# Altium footprint library Connector.PcbLib: 240 footprints (part 15 of 15)
Each footprint in its own frame and in the unit in brackets; x right, y up, seen from the top. Pads: shape width x height; smd on the part's side, far side on the other; paste and mask are expansions set on the pad; w line width, h text height; cw(c..) or ccw(c..) is an arc to the next point about the centre after c.
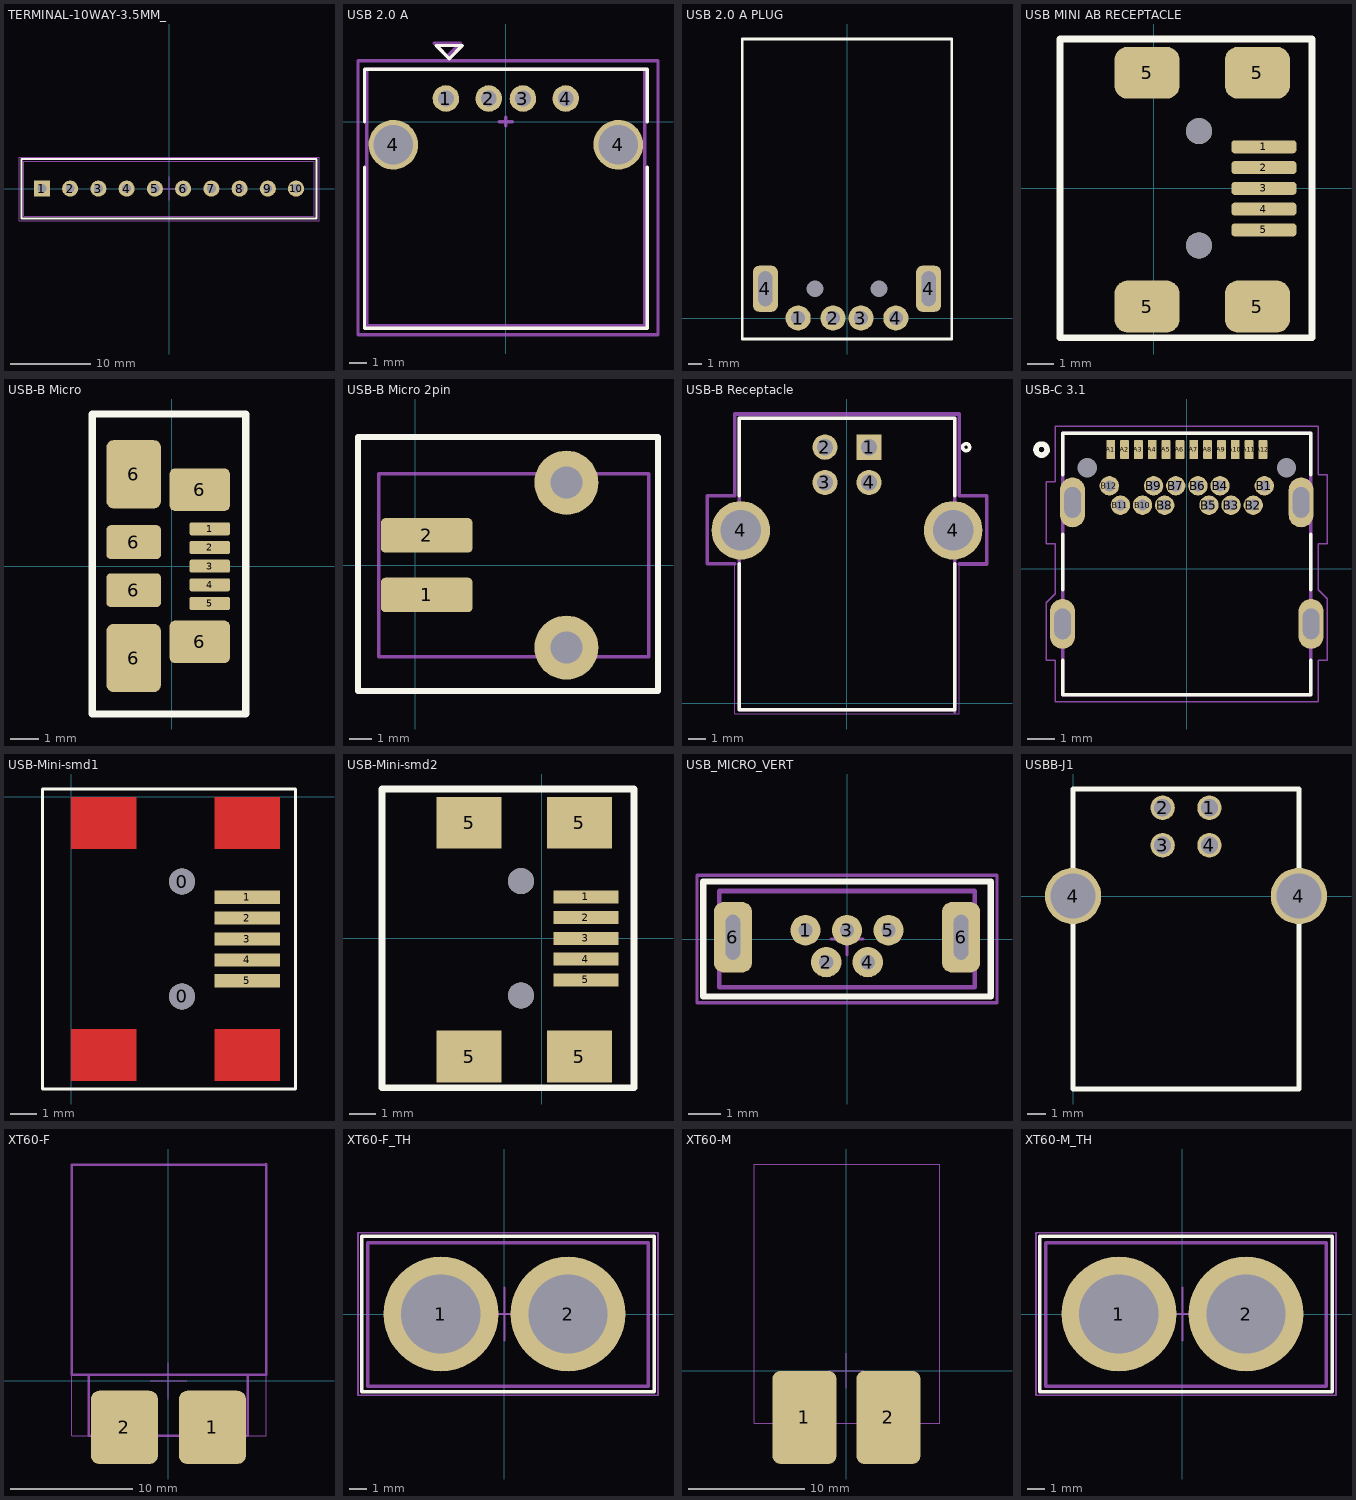
[diagram p14: the footprints below, top view; thin cyan lines are the x and y axes]

## TERMINAL-10WAY-3.5MM_ [mm]
pads (10):
  rect 2x2 hole 1.1: 1(-15.75,0)
  round 2 hole 1.1: 2(-12.25,0) 3(-8.75,0) 4(-5.25,0) 5(-1.75,0) 6(1.75,0) 7(5.25,0) 8(8.75,0) 9(12.25,0) 10(15.75,0)
Top Overlay:
  lines w0.254: -18.3,-3.7 18.3,-3.7 18.3,3.65 -18.3,3.65 -18.3,-3.7
Mechanical 9:
  text ".Designator" at -6.2,-6.5 h3.5
Mechanical 10:
  text ".Comment" at -3.4,-8.5 h2
Mechanical 11:
  lines w0.15: -18,-3.4 -18,3.395 18,3.395 18,-3.4 -18,-3.4
Mechanical 15:
  lines w0.1: -1.5,0 1.5,0 ; 0,-1.47 0,1.5 ; -18.6,-4 -18.6,3.9 18.6,3.9 18.6,-4 -18.6,-4
3D body "User Library-DG350-3,5-03P.step": height 8.4, standoff -3.5, extent -11,-3.425 0.5,3.375
3D body "User Library-DG350-3,5-02P.step": height 8.4, standoff -3.4, extent 10,-3.425 18,3.375
3D body "User Library-DG350-3,5-03P.step": height 8.4, standoff -3.5, extent -0.5,-3.425 11,3.375
3D body "User Library-DG350-3,5-02P.step": height 8.4, standoff -3.4, extent -18,-3.425 -10,3.375

## USB 2.0 A [mm]
height 7.12
pads (6):
  round 1.55 hole 0.92: 1(-3.5,1.35) 2(-1,1.35) 3(1,1.35) 4(3.5,1.35)
  round 2.9 hole 2.3: 4(-6.57,-1.35) 4(6.57,-1.35)
Top Overlay:
  lines w0.2: -8.255,-2.667 -8.255,-12.065 8.255,-12.065 8.255,-2.667 ; -8.255,0 -8.255,3.048 8.255,3.048 8.255,0 ; -4.064,4.445 -3.302,3.683 -2.54,4.445 -4.064,4.445
Mechanical 13:
  lines w0.2: -8.128,-11.938 -8.128,3.048 8.128,3.048 8.128,-11.938 -8.128,-11.938
Mechanical 15:
  lines w0.2: -0.381,0 0.381,0 ; 0,-0.254 0,0.254 ; -8.636,-12.446 -8.636,3.556 8.89,3.556 8.89,-12.446 -8.636,-12.446 ; -4.191,4.572 -2.667,4.572 -3.429,3.81 -4.191,4.572
  text ".Designator" at 0,0 h0.76
3D body "WE-EPLE_8492121_1.stp": height 7.12, standoff -3.49, extent -7.892,-11.698 7.873,2.802

## USB 2.0 A PLUG [mm]
pads (8):
  round 1.8 hole 1: 1(-3.5,0) 2(-1,0) 3(1,0) 4(3.5,0)
  rrect50% 1.8x3.3 hole 1 slot 2.5 at 90 deg: 4(-5.85,2.1) 4(5.85,2.1)
  round 0 hole 1.2 unplated: ""(-2.3,2.1) ""(2.3,2.1)
Top Overlay:
  lines w0.2: -7.5,-1.5 -7.5,20 7.5,20 7.5,-1.5 -7.5,-1.5
3D body "CUI_INC_UP2-AH-1-TH.step": height 4.15, standoff -2.2, extent -6.3,0 6.3,20

## USB MINI AB RECEPTACLE [mm]
pads (11):
  rrect50% 2.5x0.5 smd: 1(4.25,1.6) 2(4.25,0.8) 3(4.25,0) 4(4.25,-0.8) 5(4.25,-1.6)
  rrect50% 2.5x2 smd: 5(-0.25,-4.55) 5(-0.25,4.45) 5(4,-4.55) 5(4,4.45)
  round 1 hole 1 mask+0: ""(1.75,-2.2)
  round 1 hole 1 unplated mask+0: ""(1.75,2.2)
Top Overlay:
  lines w0.254: -3.6,-5.75 6.1,-5.75 6.1,5.75 -3.6,5.75 -3.6,-5.75
3D body "56579-0576.stp": height 3.95, standoff 0, extent -4.25,-4.95 4.75,4.95

## USB-B Micro [mm]
pads (11):
  rrect25% 1.4x0.45 smd: 1(1.325,1.3) 2(1.325,0.65) 3(1.325,0) 4(1.325,-0.65) 5(1.325,-1.3)
  rrect25% 1.9x2.375 smd: 6(-1.325,-3.2) 6(-1.325,3.2)
  rrect25% 1.9x1.175 smd: 6(-1.325,-0.837) 6(-1.325,0.838)
  rrect25% 2.1x1.475 smd: 6(0.975,-2.638) 6(0.975,2.663)
Top Overlay:
  lines w0.254: -2.765,-5.15 -2.765,5.3 2.575,5.3 2.575,-5.15 -2.765,-5.15
3D body "micro-B USB.STEP": height 2.64, standoff -0.28, extent -4.025,-3.974 1.401,4

## USB-B Micro 2pin [mm]
pads (4):
  rrect25% 4x1.5 smd: 1(0.5,-1.3) 2(0.5,1.3)
  round 2.8 hole 1.4: ""(6.6,-3.6) ""(6.6,3.6)
Top Overlay:
  lines w0.254: -2.5,-5.5 -2.5,5.6 10.6,5.6 10.6,-5.5 -2.5,-5.5
Mechanical 7:
  lines w0.15: -1.6,-4 -1.6,4 10.2,4 10.2,-4 -1.6,-4

## USB-B Receptacle [mm]
pads (6):
  rect 1.428x1.428 hole 0.92: 1(1.25,14.52)
  round 1.428 hole 0.92: 2(-1.25,14.52) 3(-1.25,12.52) 4(1.25,12.52)
  round 3.316 hole 2.3: 4(-6.02,9.81) 4(6.02,9.81)
Top Overlay:
  circle w0.2: c6.75,14.52 r0.2
  lines w0.2: -6.1,7.91 -6.1,-0.35 6.1,-0.35 6.1,7.91 ; -6.1,11.78 -6.1,16.15 6.1,16.15 6.1,11.78
Mechanical 4:
  circle w0.4: c1.25,14.52 r0.2
  circle w0.4: c1.25,14.52 r0.2
  lines w0.2: -6.1,-0.35 6.1,-0.35 ; -6.1,-0.35 -6.1,16.15 ; -6.1,-0.35 6.1,-0.35 ; -6.1,-0.35 -6.1,16.15 ; -6.1,16.15 6.1,16.15 ; -6.1,16.15 6.1,16.15 ; 6.1,-0.35 6.1,16.15 ; 6.1,-0.35 6.1,-0.47 6.1,-0.35 ; 6.1,-0.35 6.1,16.15
Mechanical 16:
  lines w0: -6.35,-0.6 -6.35,7.91
  lines w0.05: -6.35,-0.6 6.35,-0.6 6.35,7.9
  lines w0.2: -6.35,7.91 -7.92,7.91 -7.92,11.78 -6.35,11.78 -6.35,16.4 6.35,16.4 6.35,11.78 7.92,11.78 7.92,7.9 6.35,7.9
3D body "CUI_UJ2-BH-2-TH.step": height 10.3, standoff -3.9, extent -7.5,-0.35 7.5,16.1

## USB-C 3.1 [mm]
pads (30):
  rrect25% 0.32x0.7 smd: A1(-2.75,4.31) A2(-2.25,4.31) A3(-1.75,4.31) A4(-1.25,4.31) A5(-0.75,4.31) A6(-0.25,4.31) A7(0.25,4.31) A8(0.75,4.31) A9(1.25,4.31) A10(1.75,4.31) A11(2.25,4.31) A12(2.75,4.31)
  round 0.7 hole 0.4: B1(2.8,3) B2(2.4,2.3) B3(1.6,2.3) B4(1.2,3) B5(0.8,2.3) B6(0.4,3) B7(-0.4,3) B8(-0.8,2.3) B9(-1.2,3) B10(-1.6,2.3) B11(-2.4,2.3) B12(-2.8,3)
  oval 0.9x1.8 hole 0.6 slot 1.1 at 90 deg: ""(-4.49,-1.99) ""(-4.13,2.4) ""(4.13,2.4) ""(4.49,-1.99)
  round 0 hole 0.7 unplated: ""(-3.6,3.65) ""(3.6,3.65)
Top Overlay:
  lines w0.127: -4.48,-3.3 -4.48,-4.55 4.48,-4.55 4.48,-3.3 ; -4.48,-0.75 -4.48,1.25 ; -4.48,3.4 -4.48,4.9 4.48,4.9 4.48,3.4 ; 4.48,-0.75 4.48,1.25
  lines w0.2: -5.063,4.381 ccw(c-5.25,4.31) -5.05,4.31
Top Solder:
  region: 3.45,4.175 3.75,4.175 3.777,4.175 3.832,4.169 3.886,4.158 3.938,4.141 3.989,4.118 4.036,4.091 4.081,4.059 4.122,4.022 4.159,3.981 4.191,3.936 4.218,3.889 4.241,3.838 4.258,3.786 4.269,3.732 4.275,3.678 4.275,3.623 4.269,3.568 4.258,3.514 4.241,3.462 4.218,3.411 4.191,3.364 4.159,3.319 4.122,3.278 4.081,3.241 4.036,3.209 3.989,3.182 3.938,3.159 3.886,3.142 3.832,3.131 3.778,3.125 3.75,3.125 3.45,3.125 3.423,3.125 3.368,3.131 3.314,3.142 3.262,3.159 3.211,3.182 3.164,3.209 3.119,3.241 3.078,3.278 3.041,3.319 3.009,3.364 2.982,3.411 2.959,3.462 2.942,3.514 2.931,3.568 2.925,3.622 2.925,3.677 2.931,3.732 2.942,3.786 2.959,3.838 2.982,3.889 3.009,3.936 3.041,3.981 3.078,4.022 3.119,4.059 3.164,4.091 3.211,4.118 3.262,4.141 3.314,4.158 3.368,4.169 3.422,4.175
Bottom Solder:
  region: 3.45,4.175 3.75,4.175 3.777,4.175 3.832,4.169 3.886,4.158 3.938,4.141 3.989,4.118 4.036,4.091 4.081,4.059 4.122,4.022 4.159,3.981 4.191,3.936 4.218,3.889 4.241,3.838 4.258,3.786 4.269,3.732 4.275,3.678 4.275,3.623 4.269,3.568 4.258,3.514 4.241,3.462 4.218,3.411 4.191,3.364 4.159,3.319 4.122,3.278 4.081,3.241 4.036,3.209 3.989,3.182 3.938,3.159 3.886,3.142 3.832,3.131 3.778,3.125 3.75,3.125 3.45,3.125 3.423,3.125 3.368,3.131 3.314,3.142 3.262,3.159 3.211,3.182 3.164,3.209 3.119,3.241 3.078,3.278 3.041,3.319 3.009,3.364 2.982,3.411 2.959,3.462 2.942,3.514 2.931,3.568 2.925,3.622 2.925,3.677 2.931,3.732 2.942,3.786 2.959,3.838 2.982,3.889 3.009,3.936 3.041,3.981 3.078,4.022 3.119,4.059 3.164,4.091 3.211,4.118 3.262,4.141 3.314,4.158 3.368,4.169 3.422,4.175
Mechanical 4:
  circle w0.127: c-2.75,4.41 r0.06
  circle w0.127: c-2.75,4.41 r0.06
  lines w0.127: -4.48,-4.55 4.48,-4.55 ; -4.48,-4.55 -4.48,4.9 ; -4.48,-4.55 4.48,-4.55 ; -4.48,-4.55 -4.48,4.9 ; -4.48,4.9 4.48,4.9 ; -4.48,4.9 4.48,4.9 ; 4.48,-4.55 4.48,4.9 ; 4.48,-4.55 4.48,4.9
Mechanical 15:
  lines w0.05: -5.08,-3.3 -5.08,-2.35 -5.08,-1.23 -4.75,-0.9 -4.75,0.9 -5.08,0.9 -5.08,3.15 -4.75,3.15 -4.75,5.15 4.75,5.15 4.75,3.4 5.08,3.4 5.08,0.9 4.75,0.9 4.75,-0.75 5.08,-1.08 5.08,-2.35 5.08,-3.3 4.75,-3.3 4.75,-4.8 -4.75,-4.8 -4.75,-3.3 -5.08,-3.3
3D body "CUI_UJ31-CH-31-SMT-TR.step": height 3.15, standoff -0.93, extent -4.48,-5.95 4.48,4.9

## USB-Mini-smd1 [mm]
pads (7):
  round 1 hole 1 mask+0: 0(4.25,-7.65) 0(4.25,-3.25)
  rect 2.5x0.5 smd: 1(6.75,-3.85) 2(6.75,-4.65) 3(6.75,-5.45) 4(6.75,-6.25) 5(6.75,-7.05)
Top Layer:
  rectangle: 0,-10.9 2.5,-8.9
  rectangle: 0,-2 2.5,0
  rectangle: 5.5,-10.9 8,-8.9
  rectangle: 5.5,-2 8,0
Top Overlay:
  lines w0.1: -1.1,-11.2 8.6,-11.2 8.6,0.3 -1.1,0.3 -1.1,-11.2
3D body "User Library-usb_mini_smd.STEP": height 4.14, standoff -0.95, extent -1.7,-10.4 7.5,-0.5

## USB-Mini-smd2 [mm]
height 2
pads (11):
  rect 2.5x0.5 smd: 1(1.7,1.6) 2(1.7,0.8) 3(1.7,0) 4(1.7,-0.8) 5(1.7,-1.6)
  rect 2.5x2 smd: 5(-2.8,-4.55) 5(-2.8,4.45) 5(1.45,-4.55) 5(1.45,4.45)
  round 1 hole 1 mask+0: ""(-0.8,-2.2)
  round 1 hole 1 unplated mask+0: ""(-0.8,2.2)
Top Overlay:
  lines w0.254: -6.15,-5.75 3.55,-5.75 3.55,5.75 -6.15,5.75 -6.15,-5.75
3D body "miniusbfm.step": height 3.9, standoff -0.05, extent -6.875,-4.95 2.125,4.95

## USB_MICRO_VERT [mm]
pads (7):
  round 0.95 hole 0.45: 1(-1.3,0.275) 2(-0.65,-0.725) 3(0,0.275) 4(0.65,-0.725) 5(1.3,0.275)
  rrect50% 1.2x2.2 hole 0.45 slot 1.4 at 90 deg: 6(-3.575,0.055) 6(3.575,0.055)
Top Overlay:
  lines w0.2: -4.5,-1.8 -4.5,1.8 4.5,1.8 4.5,1.6 4.5,-1.8 -4.5,-1.8
Mechanical 7:
  lines w0.15: -4,-1.51 4,-1.51 4,1.505 -4,1.505 -4,-1.51
Mechanical 15:
  lines w0.1: -0.5,0 0.5,0 ; 0,-0.5 0,0.5 ; -4.7,-2 -4.7,2 4.7,2 4.7,-2 -4.7,-2
3D body "User Library-Micro USB B THT vertical.step": height 6.94, standoff -0.97, extent -4,-1.51 4,1.505

## USBB-J1 [mm]
pads (6):
  round 1.3 hole 0.92: 1(7.27,4.71) 2(4.77,4.71) 3(4.77,2.71) 4(7.27,2.71)
  round 3 hole 2.4: 4(0,0) 4(12.04,0)
Top Overlay:
  lines w0.254: 12,5.71 0,5.71 0,-10.29 12.04,-10.29 12.04,5.71
3D body "User Library-Samtec - USB-B-S-X-W-TH.STEP": height 11, standoff -3.64, extent -1.398,-10.3 13.398,6.2

## XT60-F [mm]
pads (2):
  rrect25% 5.5x6 smd: 1(3.6,-3.8) 2(-3.6,-3.8)
Mechanical 7:
  lines w0.2: -6.5,0.5 -6.5,-4.5 6.5,-4.5 6.5,0.5 ; -7.9,17.7 -7.9,0.5 8,0.5 8,17.75 7.95,17.7 -7.9,17.7 ; -7.9,17.7 -7.9,17.7
Mechanical 9:
  text ".Designator" at -5.35,20.1 h3.5
Mechanical 10:
  text ".Comment" at -3.15,18.1 h2
Mechanical 15:
  lines w0.1: -1.5,0 1.5,0 ; 0,-1.5 0,1.5 ; -7.9,-4.5 8,-4.5 8,17.75 -7.9,17.75 -7.9,-4.5
3D body "User Library-XT60 female.step": height 6.18, standoff -1.97, extent -7.9,-4.5 8,17.7

## XT60-F_TH [mm]
pads (2):
  round 6.5 hole 4.5: 1(-3.6,0) 2(3.6,0)
Top Overlay:
  lines w0.2: -8.1,-4.4 -8.1,4.4 8.5,4.4 8.5,-4.4 -8.1,-4.4
Mechanical 7:
  lines w0.2: -7.75,-4.1 -7.75,4.05 8.15,4.05 8.15,-4.1 -7.75,-4.1
Mechanical 9:
  text ".Designator" at -5.3,6.6 h3.5
Mechanical 10:
  text ".Comment" at -2.7,4.5 h2
Mechanical 15:
  lines w0.1: -1.5,0 1.5,0 ; 0,-1.5 0,1.5 ; -8.3,-4.6 8.7,-4.6 8.7,4.6 -8.3,4.6 -8.3,-4.6
3D body "User Library-XT60 female.step": height 17.5, standoff -4.7, extent -7.75,-4.1 8.15,4.05

## XT60-M [mm]
pads (2):
  rrect25% 5.5x8 smd: 1(-3.6,-4) 2(3.6,-4)
Mechanical 9:
  text ".Designator" at -5.35,20.1 h3.5
Mechanical 10:
  text ".Comment" at -3.15,18.1 h2
Mechanical 15:
  lines w0.1: -1.5,0 1.5,0 ; 0,-1.5 0,1.5 ; -7.9,-4.5 -7.9,17.75 8,17.75 8,-4.5 -7.9,-4.5
3D body "User Library-XT60 male.step": height 6.18, standoff -1.97, extent -7.9,-4.5 8,16.7

## XT60-M_TH [mm]
pads (2):
  round 6.5 hole 4.5: 1(-3.6,0) 2(3.6,0)
Top Overlay:
  lines w0.2: -8.1,-4.4 -8.1,4.4 8.5,4.4 8.5,-4.4 -8.1,-4.4
Mechanical 7:
  lines w0.2: -7.75,-4.1 -7.75,4.05 8.15,4.05 8.15,-4.1 -7.75,-4.1
Mechanical 9:
  text ".Designator" at -5.3,6.6 h3.5
Mechanical 10:
  text ".Comment" at -2.7,4.5 h2
Mechanical 15:
  lines w0.1: -1.5,0 1.5,0 ; 0,-1.5 0,1.5 ; -8.3,-4.6 8.7,-4.6 8.7,4.6 -8.3,4.6 -8.3,-4.6
3D body "User Library-XT60 male.step": height 16.5, standoff -4.7, extent -7.75,-4.1 8.15,4.05